# EAGLE library part TLV62569 (library PP_PowerIC)
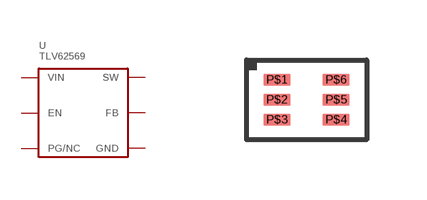
[diagram p15: symbol with the pads of TLV62568_SOT-5X3; footprint TLV62568_SOT-5X3]

Designator prefix U

## TLV62569  [TLV62568_SOT-5X3]
P$1  FB
P$2  GND
P$3  VIN
P$4  SW
P$5  EN
P$6  PG/NC

## Footprint TLV62568_SOT-5X3 (pad centres in mm)
smd 0.67 x 0.3: P$1 -0.74,0.5; P$2 -0.74,0; P$3 -0.74,-0.5; P$4 0.74,-0.5; P$5 0.74,0; P$6 0.74,0.5